# Altium footprint library QUAN.PcbLib: 216 footprints (part 14 of 14)
Each footprint in its own frame and in the unit in brackets; x right, y up, seen from the top. Pads: shape width x height; smd on the part's side, far side on the other; paste and mask are expansions set on the pad; w line width, h text height; cw(c..) or ccw(c..) is an arc to the next point about the centre after c.
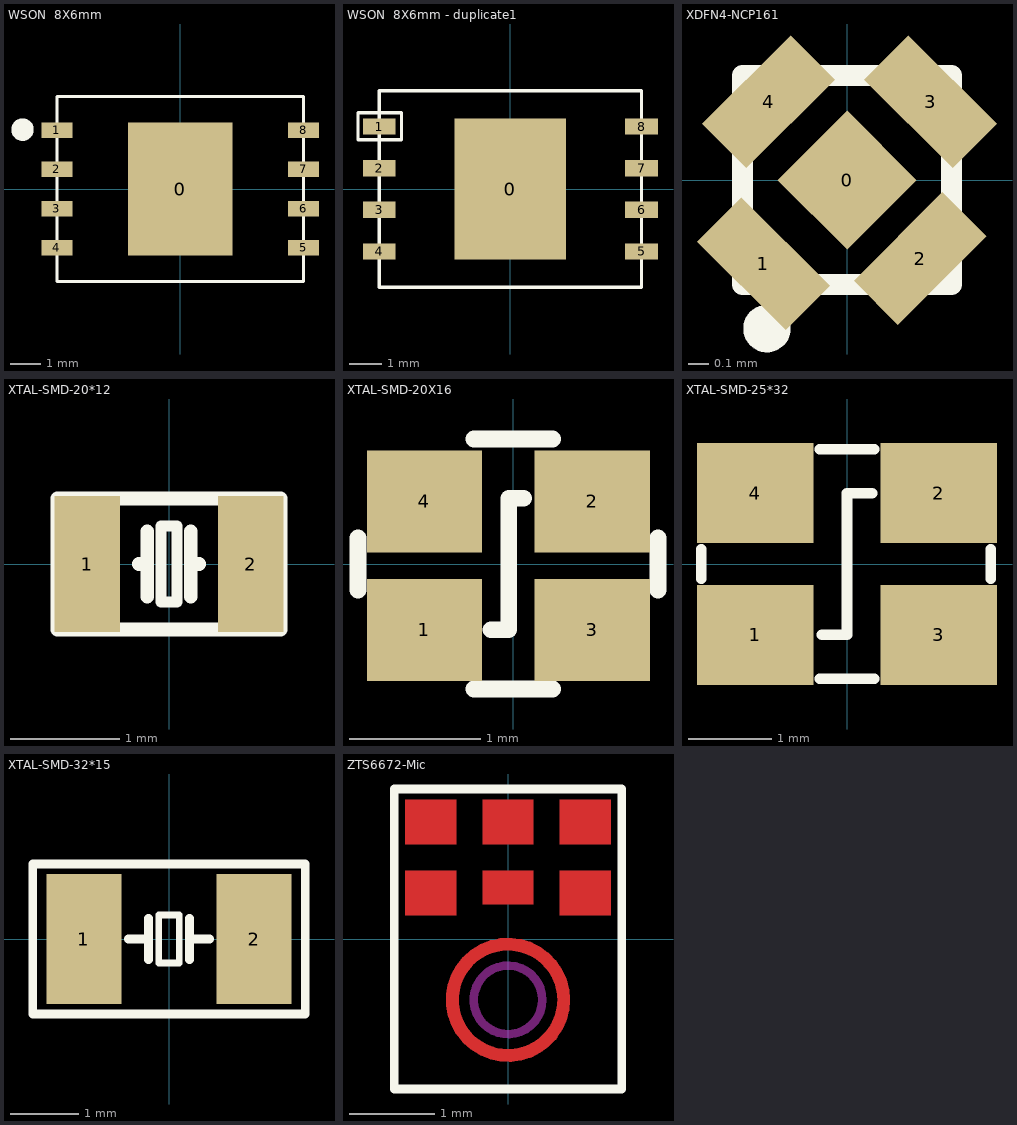
[diagram p13: the footprints below, top view; thin cyan lines are the x and y axes]

## WSON  8X6mm [mm] "WSON  8X6mm"
pads (9):
  rect 3.4x4.3 smd: 0(0,0)
  rect 1x0.5 smd: 1(-4,1.905) 2(-4,0.635) 3(-4,-0.635) 4(-4,-1.905) 5(4,-1.905) 6(4,-0.635) 7(4,0.635) 8(4,1.905)
Top Overlay:
  circle w0.5: c-5.114,1.925 r0.114
  lines w0.1: -4,-3 -4,3 4,3 4,-3 -4,-3

## WSON  8X6mm - duplicate1 [mm] "WSON  8X6mm"
pads (9):
  rect 3.4x4.3 smd: 0(0,0)
  rect 1x0.5 smd: 1(-4,1.905) 2(-4,0.635) 3(-4,-0.635) 4(-4,-1.905) 5(4,-1.905) 6(4,-0.635) 7(4,0.635) 8(4,1.905)
Top Overlay:
  lines w0.1: -4.65,1.5 -4.65,2.325 -3.325,2.325 -3.325,1.5 -4.65,1.5 ; -4,-3 -4,3 4,3 4,-3 -4,-3

## XDFN4-NCP161 [mm] "XDFN4-NCP161"
pads (5):
  rect 0.47x0.47 smd rot 45: 0(0,0)
  rect 0.3x0.6 smd rot 45: 1(-0.4,-0.4) 3(0.4,0.375)
  rect 0.3x0.6 smd rot 135: 2(0.35,-0.375) 4(-0.375,0.375)
Top Overlay:
  circle w0.127: c-0.383,-0.71 r0.05
  lines w0.1: -0.5,-0.5 0.5,-0.5 0.5,0.5 -0.5,0.5 -0.5,-0.5

## XTAL-SMD-20*12 [mm] "XTAL-SMD-20*12"
pads (2):
  rect 0.6x1.25 smd: 1(-0.75,0) 2(0.75,0)
Top Overlay:
  lines w0.1: -0.075,-0.35 0.075,-0.35 0.075,0.35 -0.075,0.35 -0.075,-0.35
  lines w0.127: -0.275,0 -0.2,0 ; -0.2,-0.3 -0.2,0.3 ; 0.2,-0.3 0.2,0.3 ; 0.2,0 0.275,0 ; -1.025,-0.6 -1.025,0.6 1.025,0.6 1.025,-0.6 -1.025,-0.6

## XTAL-SMD-20X16 [mm] "XTAL-SMD-20X16"
pads (4):
  rect 0.875x0.775 smd: 1(-0.675,-0.5) 2(0.6,0.475) 3(0.6,-0.5) 4(-0.675,0.475)
Top Overlay:
  lines w0.127: -1.18,-0.2 -1.18,0.2 ; -0.3,-0.95 0.3,-0.95 ; -0.3,0.95 0.3,0.95 ; -0.17,-0.5 -0.035,-0.5 -0.035,0.5 0.08,0.5 ; 1.1,-0.2 1.1,0.2

## XTAL-SMD-25*32 [mm]
pads (4):
  rect 1.4x1.2 smd: 1(-1.1,-0.85) 2(1.1,0.85) 3(1.1,-0.85) 4(-1.1,0.85)
Top Overlay:
  lines w0.127: -1.75,-0.175 -1.75,0.175 ; -0.325,-1.375 0.325,-1.375 ; -0.325,1.375 0.325,1.375 ; -0.3,-0.85 0,-0.85 0,0.85 0.3,0.85 ; 1.725,-0.175 1.725,0.175

## XTAL-SMD-32*15 [mm]
pads (2):
  rect 1.1x1.9 smd: 1(-1.25,0) 2(1.25,0)
Top Overlay:
  lines w0.1: -0.15,-0.35 0.15,-0.35 0.15,0.35 -0.15,0.35 -0.15,-0.35
  lines w0.127: -0.6,0 -0.3,0 ; -0.3,-0.3 -0.3,0.3 ; 0.3,-0.3 0.3,0.3 ; 0.3,0 0.6,0 ; -2,-1.1 -2,1.1 2,1.1 2,-1.1 -2,-1.1

## ZTS6672-Mic [mm] "ZTS6672-Mic"
Top Layer:
  circle w0.15: c0,-0.71 r0.65
  rectangle: -1.2,1.1 -0.6,1.625
  rectangle: -0.3,1.1 0.3,1.625
  rectangle: 0.6,1.1 1.2,1.625
  rectangle: -1.2,0.275 -0.6,0.8
  rectangle: 0.6,0.275 1.2,0.8
  rectangle: -0.3,0.4 0.3,0.8
Top Overlay:
  lines w0.1: -1.325,-1.75 -1.325,1.75 1.325,1.75 1.325,-1.75 -1.325,-1.75
Top Paste:
  circle w0.1: c0,-0.71 r0.65
  rectangle: -1.075,1.239 -0.725,1.489
  rectangle: -0.174,1.238 0.176,1.488
  rectangle: 0.725,1.237 1.075,1.487
  rectangle: -1.075,0.414 -0.725,0.664
  rectangle: 0.726,0.413 1.076,0.663
  rectangle: -0.175,0.5 0.175,0.7
Top Solder:
  circle w0.22: c0,-0.71 r0.65
  region: -0.5,1.725 -1.3,1.725 -1.3,1 -0.5,1
  region: 0.4,1.725 -0.4,1.725 -0.4,1 0.4,1
  region: 1.3,1.725 0.5,1.725 0.5,1 1.3,1
  region: 1.3,0.9 0.5,0.9 0.5,0.175 1.3,0.175
  region: -0.5,0.9 -1.3,0.9 -1.3,0.175 -0.5,0.175
  region: 0.4,0.9 -0.4,0.9 -0.4,0.3 0.4,0.3
Keep-Out Layer:
  circle w0.1: c0,-0.71 r0.4